# Altium schematic symbol library IoWLabsConnectors.SchLib: 21 symbols
Pins are listed as number, name and electrical type; pins without a type are passive.

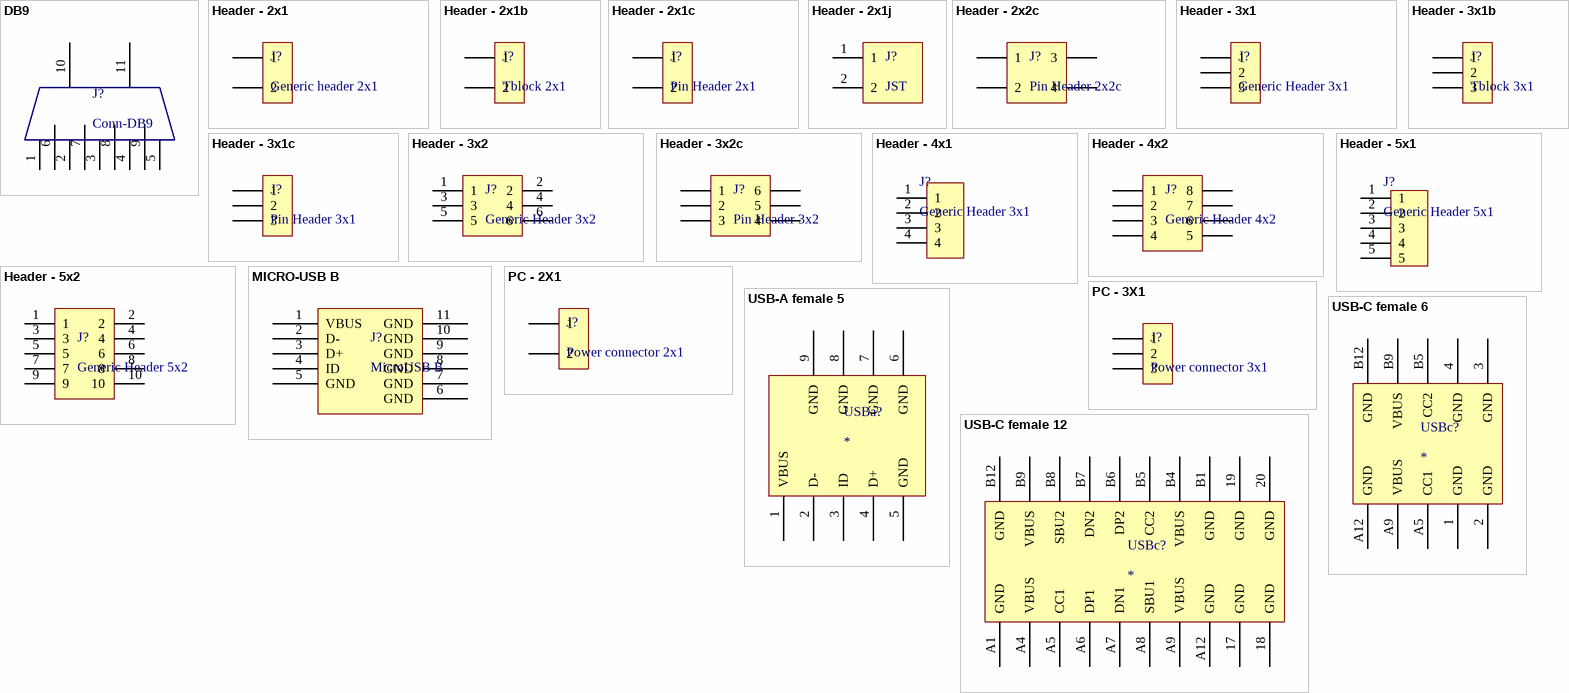
[diagram p0: symbols DB9 to USB-C female 12]

## DB9
designator J?, comment Conn-DB9
D-Sub Connectors, Through Hole, 9pins RA, Female; Manufacturer Part Number: DS1037-09FNAKT74-0CC; Supplier 1: LCSC; Supplier Part Number 1: C75749
footprint D-SUB 9 (D-SUB 9 RA)
pins: 1, 2, 3, 4, 5, 6, 7, 8, 9, 10, 11

## Header - 2x1
designator J?, comment Generic header 2x1
Generic Header 2pos, 1 row, 2.54 pitch; Manufacturer: CJT(Changjiang Connectors); Manufacturer Part Number: A2547WV-2P; Pitch: 2.54mm; Supplier 1: LCSC; Supplier Part Number 1: C239377; Package: Through Hole,P=2.54mm
footprint CONN-TH_A2547WV-2P
footprint HDR-TH_P2.54-H-M_A2541WV-2P
footprint JST-2x1 (JST- TH-2x1-P2.5-XH)
footprint T_BLOCK_2P (PITCH 5.0, 3 POS)
pins: 1, 2

## Header - 2x1b
designator J?, comment Tblock 2x1
Screw terminal 2pos, 1 row, 5pitch; Manufacturer: CJT(Changjiang Connectors); Manufacturer Part Number: A2547WV-2P; Pitch: 2.54mm; Supplier 1: LCSC; Supplier Part Number 1: C239377; Package: Through Hole,P=2.54mm
footprint T_BLOCK_2P (PITCH 5.0, 3 POS)
pins: 1, 2

## Header - 2x1c
designator J?, comment Pin Header 2x1
Pin Header 2pos, 1 row, 2.54 pitch; Manufacturer: CJT(Changjiang Connectors); Manufacturer Part Number: A2541WV-2P; Pitch: 2.54; Supplier 1: LCSC; Supplier Part Number 1: C225477
footprint HDR-TH_P2.54-H-M_A2541WV-2P
pins: 1, 2

## Header - 2x1j
designator J?, comment JST
JST  2x1p   P=2.5mm; Manufacturer Part Number: S02B-XASS-1N-BN(LF)(SN); Supplier 1: LCSC; Supplier Part Number 1: C161669
pins: 1, 2

## Header - 2x2c
designator J?, comment Pin Header 2x2c
Pin Header 4pos, 2 row, 2.54 pitch; Manufacturer: CJT(Changjiang Connectors); Manufacturer Part Number: A2541WV-2x2P; Pitch: 2.54; Supplier 1: LCSC; Supplier Part Number 1: C225517
footprint HDR-TH_4P-P2.54-V-R2-C2-S2.54_A2541WV-2X2P
pins: 1, 2, 3, 4

## Header - 3x1
designator J?, comment Generic Header 3x1
Generic Header 3pos, 1 row, 2.54 pitch; Manufacturer: CJT(Changjiang Connectors); Manufacturer Part Number: A2547WV-3P; Pitch: 2.54; Supplier 1: LCSC; Supplier Part Number 1: C239378; Package: Through Hole,P=2.54mm
footprint CONN-TH_A2547WV-3P
footprint JST-3x1 (JST- TH-3x1-P2.5-B3B-XH-AM-(LF)(SN))
footprint T_BLOCK_3P (PITCH 5.0, 3 POS)
pins: 1, 2, 3

## Header - 3x1b
designator J?, comment Tblock 3x1
Screw terminal 2pos, 1 row, 5pitch; Pitch: 2.54; Supplier 1: LCSC; Manufacturer Part Number: *
footprint T_BLOCK_3P (PITCH 5.0, 3 POS)
pins: 1, 2, 3

## Header - 3x1c
designator J?, comment Pin Header 3x1
Pin Header 3pos, 1 row, 2.54 pitch; Manufacturer: CJT(Changjiang Connectors); Manufacturer Part Number: A2541WV-3P; Pitch: 2.54; Supplier 1: LCSC; Supplier Part Number 1: C225478
footprint HDR-TH_3P-P2.54-V
pins: 1, 2, 3

## Header - 3x2
designator J?, comment Generic Header 3x2
Generic Header 6 pos, 2 row, 2.54 pitch; Manufacturer: XFCN; Manufacturer Part Number: BH254V-6P; Model: BH IDC; Pitch: 2.54; Supplier 1: LCSC; Supplier Part Number 1: C492441
footprint HDR3x2_BH-6V
pins: 1, 2, 3, 4, 5, 6

## Header - 3x2c
designator J?, comment Pin Header 3x2
Pin Header 6pos, 2 row, 2.54 pitch; Manufacturer: CJT(Changjiang Connectors); Manufacturer Part Number: A2541WV-2x3P; Pitch: 2.54; Supplier 1: LCSC; Supplier Part Number 1: C225518
footprint HDR-TH_6P-P2.54-V-R2-C3-S2.54_A2541WV-2X3P
pins: 1, 2, 3, 4, 5, 6

## Header - 4x1
designator J?, comment Generic Header 3x1
Generic Header 4pos, 1 row, 2.54 pitch
footprint JST-4x1 (JST- TH-4x1-P2.5-XH)
pins: 1, 2, 3, 4

## Header - 4x2
designator J?, comment Generic Header 4x2
Generic Header 8 pos, 2 row, 2.54 pitch; Manufacturer: MOLEX; Manufacturer Part Number: 15477608; Pitch: 2.54; Package: Through Hole,P=2.54mm; Supplier 1: LCSC; Supplier part number 1: C277394
footprint CONN-TH_8P-P2.54-V-M_15477608
pins: 1, 2, 3, 4, 5, 6, 7, 8

## Header - 5x1
designator J?, comment Generic Header 5x1
Generic Header 4pos, 1 row, 2.54 pitch
footprint JST-5x1 (JST- TH-5x1-P2.5-B3B-XH-AM-(LF)(SN))
pins: 1, 2, 3, 4, 5

## Header - 5x2
designator J?, comment Generic Header 5x2
Generic Header 10 pos, 2 row, 2.54 pitch; Manufacturer: XFCN; Manufacturer Part Number: BH254V-10P; Model: BH IDC; Pitch: 2.54; Supplier 1: LCSC; Supplier Part Number 1: C492442
footprint HDR5x2_BH-10V
pins: 1, 2, 3, 4, 5, 6, 7, 8, 9, 10

## MICRO-USB B
designator J?, comment MicroUSB B
Female USB - Micro B SMD Audio & Video Connectors RoHS; Manufacturer Part Number: 10118193-0001LF; Supplier 1: LCSC; Supplier Part Number 1: C132562
footprint Micro-USB (Micro usb b type receptacle)
pins: 1 VBUS, 2 D-, 3 D+, 4 ID, 5 GND, 6 GND, 7 GND, 8 GND, 9 GND, 10 GND, 11 GND

## PC - 2X1
designator J?, comment Power connector 2x1
Generic Header Power 2pos; Manufacturer: MOLEX; Manufacturer Part Number: 430450212; Supplier 1: LCSC; Supplier Part Number 1: C293362; Package: *
footprint CONN-TH_430450212
pins: 1, 2

## PC - 3X1
designator J?, comment Power connector 3x1
pins: 1, 2, 3

## USB-A female 5
designator USBa?
USB - Type A Female USB 2.0 5 Through Hole USB Connectors RoHS; Manufacturer: XKB Connectivity; Manufacturer Part Number: U234-051N-3GRA035-5; Supplier 1: LCSC; Supplier Part Number 1: C381138
footprint USB-A_TH 5 CONTACTS
pins: 1 VBUS, 2 D-, 3 ID, 4 D+, 5 GND, 6 GND, 7 GND, 8 GND, 9 GND

## USB-C female 6
designator USBc?
USB - Type C Female 6 USB Connectors RoHS; Manufacturer: Korean Hroparts Elec; Manufacturer Part Number: TYPE-C-31-M-17; Supplier 1: LCSC; Supplier Part Number 1: C283540
footprint USB-C_SMD 6 contacts
pins: 1 GND, 2 GND, 3 GND, 4 GND, A5 CC1, A9 VBUS, A12 GND, B5 CC2, B9 VBUS, B12 GND

## USB-C female 12
designator USBc?
USB - Type C Female 12 Sink plate type USB Connectors RoHS; Manufacturer: Korean Hroparts Elec; Manufacturer Part Number: TYPE-C-31-M-13; Package: *; Supplier 1: LCSC; Supplier Part Number 1: C223906
footprint USB-C_SMD (Sinkhead)
pins: 17 GND, 18 GND, 19 GND, 20 GND, A1 GND, A4 VBUS, A5 CC1, A6 DP1, A7 DN1, A8 SBU1, A9 VBUS, A12 GND, B1 GND, B4 VBUS, B5 CC2, B6 DP2, B7 DN2, B8 SBU2, B9 VBUS, B12 GND